# Altium footprint library MainPcblib.PcbLib: 316 footprints (part 1 of 20)
Each footprint in its own frame and in the unit in brackets; x right, y up, seen from the top. Pads: shape width x height; smd on the part's side, far side on the other; paste and mask are expansions set on the pad; w line width, h text height; cw(c..) or ccw(c..) is an arc to the next point about the centre after c.
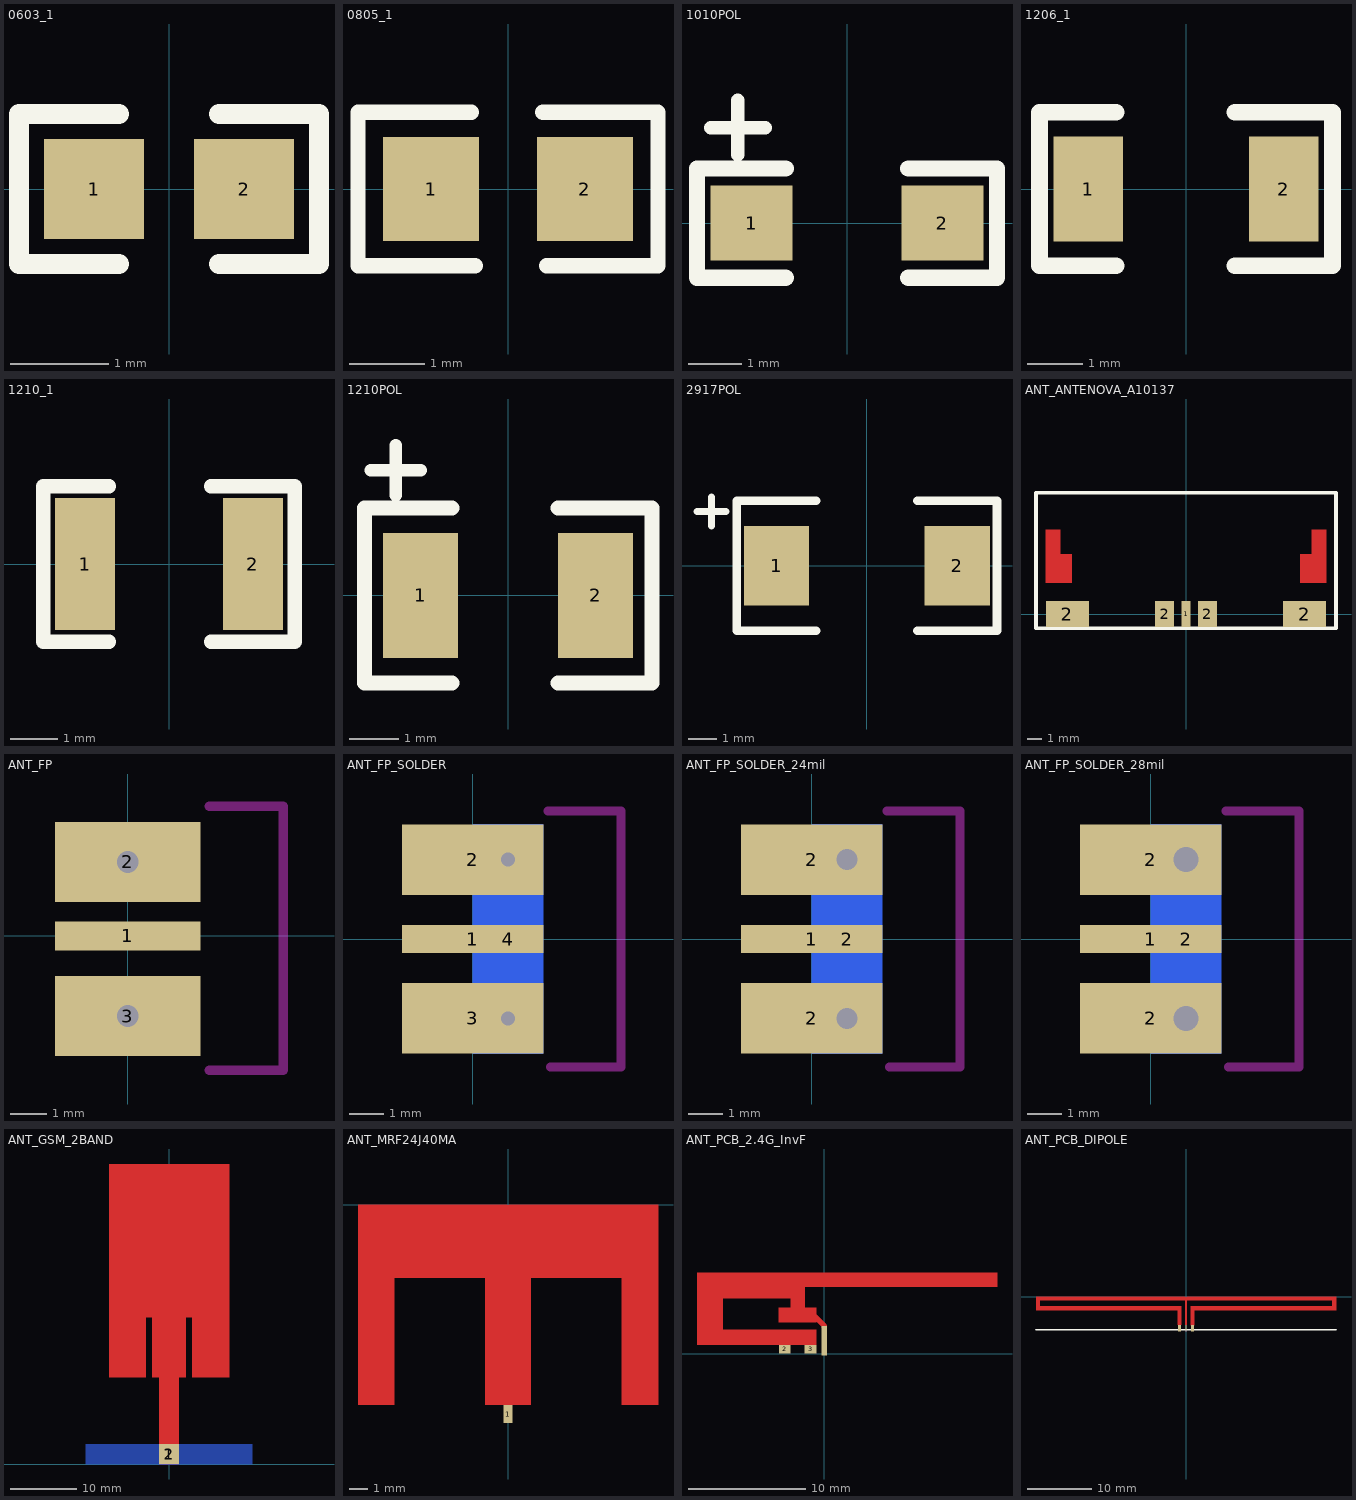
[diagram p0: the footprints below, top view; thin cyan lines are the x and y axes]

## 0603_1 [mil]
pads (2):
  rect 40x40 smd: 1(-30,0) 2(30,0)
Top Overlay:
  lines w8: -20,-30 -60,-30 -60,30 -20,30 ; 20,-30 60,-30 60,30 20,30

## 0805_1 [mil]
pads (2):
  rect 50x54 smd: 1(-40,0) 2(40,0)
Top Overlay:
  lines w8: -19,40 -78,40 -78,-40 -17,-40 ; 18,40 78,40 78,-40 20,-40

## 1010POL [mil]
pads (2):
  rect 60x55 smd: 1(-70,0) 2(70,0)
Top Overlay:
  lines w10: -100,70 -60,70 ; -80,50 -80,90
  lines w12: -45,-40 -110,-40 -110,40 -45,40 ; 45,-40 110,-40 110,40 45,40

## 1206_1 [mil]
pads (2):
  rect 50x75 smd: 1(-70,0) 2(70,0)
Top Overlay:
  lines w12: -50,-55 -105,-55 -105,55 -50,55 ; 35,-55 105,-55 105,55 35,55

## 1210_1 [mm]
pads (2):
  rect 1.27x2.8 smd: 1(-1.778,0) 2(1.778,0)
Top Overlay:
  lines w0.305: -1.27,-1.651 -2.667,-1.651 -2.667,1.651 -1.27,1.651 ; 0.889,-1.651 2.667,-1.651 2.667,1.651 0.889,1.651

## 1210POL [mil]
pads (2):
  rect 60x100 smd: 1(-70,0) 2(70,0)
Top Overlay:
  lines w10: -110,100 -70,100 ; -90,80 -90,120
  lines w12: -45,-70 -115,-70 -115,70 -45,70 ; 40,-70 115,-70 115,70 40,70

## 2917POL [mil] "Tand D+E"
height 118.11
pads (2):
  rect 90x110 smd: 1(-125,0) 2(125,0)
Top Overlay:
  lines w10: -235,75 -195,75 ; -215,55 -215,95
  lines w12: -70,-90 -180,-90 -180,90 -70,90 ; 70,-90 180,-90 180,90 70,90

## ANT_ANTENOVA_A10137 [mm]
height 1.5
pads (5):
  rect 0.6x1.8 smd: 1(0,0)
  rect 3x1.8 smd: 2(-8.3,0) 2(8.3,0)
  rect 1.35x1.8 smd: 2(-1.5,0) 2(1.5,0)
Top Layer:
  region: 9.8,2.2 9.8,5.9 8.8,5.9 8.8,4.2 8,4.2 8,2.2
  region: -9.8,2.2 -9.8,5.9 -8.8,5.9 -8.8,4.2 -8,4.2 -8,2.2
Top Overlay:
  lines w0.254: -10.5,-1 -10.5,-0.9 -10.5,7.6 -10.5,8.5 10.5,8.5 10.5,-1 -10.5,-1

## ANT_FP [mm]
pads (3):
  rect 4x0.8 smd: 1(0,0)
  rect 4x2.2 hole 0.6: 2(0,2.032) 3(0,-2.2)
Keep-Out Layer:
  lines w0.254: 2.235,-3.683 4.267,-3.683 4.267,3.556 2.235,3.556

## ANT_FP_SOLDER [mil]
pads (4):
  rect 160x32 smd: 1(0,0)
  rect 160x80 smd: 2(0,90) 3(0,-90)
  rect 80x260 smd far side: 4(40,0)
via 40,-90 diameter 28 hole 16
via 40,90 diameter 28 hole 16
Keep-Out Layer:
  lines w10: 85,145 165,145 ; 88,-145 168,-145 168,145

## ANT_FP_SOLDER_24mil [mil]
pads (4):
  rect 160x32 smd: 1(0,0)
  rect 160x80 smd: 2(0,-90) 2(0,90)
  rect 80x260 smd far side: 2(40,0)
via 40,90 diameter 50 hole 24
via 40,-90 diameter 50 hole 24
Keep-Out Layer:
  lines w10: 85,145 165,145 ; 88,-145 168,-145 168,145

## ANT_FP_SOLDER_28mil [mil]
pads (4):
  rect 160x32 smd: 1(0,0)
  rect 160x80 smd: 2(0,-90) 2(0,90)
  rect 80x260 smd far side: 2(40,0)
via 40,90 diameter 50 hole 28
via 40,-90 diameter 50 hole 28
Keep-Out Layer:
  lines w10: 85,145 165,145 ; 88,-145 168,-145 168,145

## ANT_GSM_2BAND [mm] "https://www.scribd.com/document/110470988/ejsr-32-2-02"
pads (2):
  rect 3x3 smd: 1(0,1.5)
  rect 3x3 smd far side: 2(0,1.5)
Top Layer:
  region: -1.5,0 -1.5,13 -2.5,13 -2.5,22 -3.5,22 -3.5,13 -9,13 -9,45 9,45 9,13 3.5,13 3.5,22 2.5,22 2.5,13 1.5,13 1.5,0
Bottom Layer:
  region: -12.5,0 -12.5,3 12.5,3 12.5,0

## ANT_MRF24J40MA [mm]
pads (1):
  rect 0.5x1 smd paste+0 mask+0.102: 1(0,-11.5)
Top Layer:
  region: -8.25,-11 -6.25,-11 -6.25,-4 -1.25,-4 -1.25,-11 1.25,-11 1.25,-4 6.25,-4 6.25,-11 8.25,-11 8.25,0 -8.25,0

## ANT_PCB_2.4G_InvF [mm] "TI AN 007  - http://www.ti.com/lit/an/swru120b/swru120b.pdf"
pads (3):
  rect 0.46x2.5 smd: 1(0,1.09)
  rect 1x0.74 smd: 2(-3.38,0.37) 3(-1.18,0.37)
Top Layer:
  region: -0.68,0.74 -0.68,2.02 -8.68,2.02 -8.68,4.7 -2.88,4.7 -2.88,3.9 -3.88,3.9 -3.88,2.69 -0.68,2.69 -0.68,3.9 -1.68,3.9 -1.68,5.7 14.72,5.7 14.72,6.91 -10.86,6.91 -10.86,0.74
  lines w0.46: -0.86,3.2 0,2.34

## ANT_PCB_DIPOLE [mm] "for CC2420"
pads (3):
  rect 0.5x1 smd: 1(-1,-4.9) 2(1,-4.925)
  rect 0.2x1 smd: 3(0,-4.9)
Top Layer:
  region: -23.3,0 -23.3,-2.1 -1.25,-2.1 -1.25,-4.4 -0.75,-4.4 -0.75,-1.525 -22.725,-1.525 -22.725,-0.575 -0.1,-0.575 -0.1,-4.4 0.1,-4.4 0.1,-0.575 22.725,-0.575 22.725,-1.525 0.75,-1.525 0.75,-4.425 1.25,-4.425 1.25,-2.1 23.3,-2.1 23.3,0
Top Overlay:
  lines w0.254: -23.3,-5.15 23.3,-5.15